# Altium footprint library TerminalBlock_Phoenix.PcbLib: 126 footprints (part 7 of 8)
Each footprint in its own frame and in the unit in brackets; x right, y up, seen from the top. Pads: shape width x height; smd on the part's side, far side on the other; paste and mask are expansions set on the pad; w line width, h text height; cw(c..) or ccw(c..) is an arc to the next point about the centre after c.
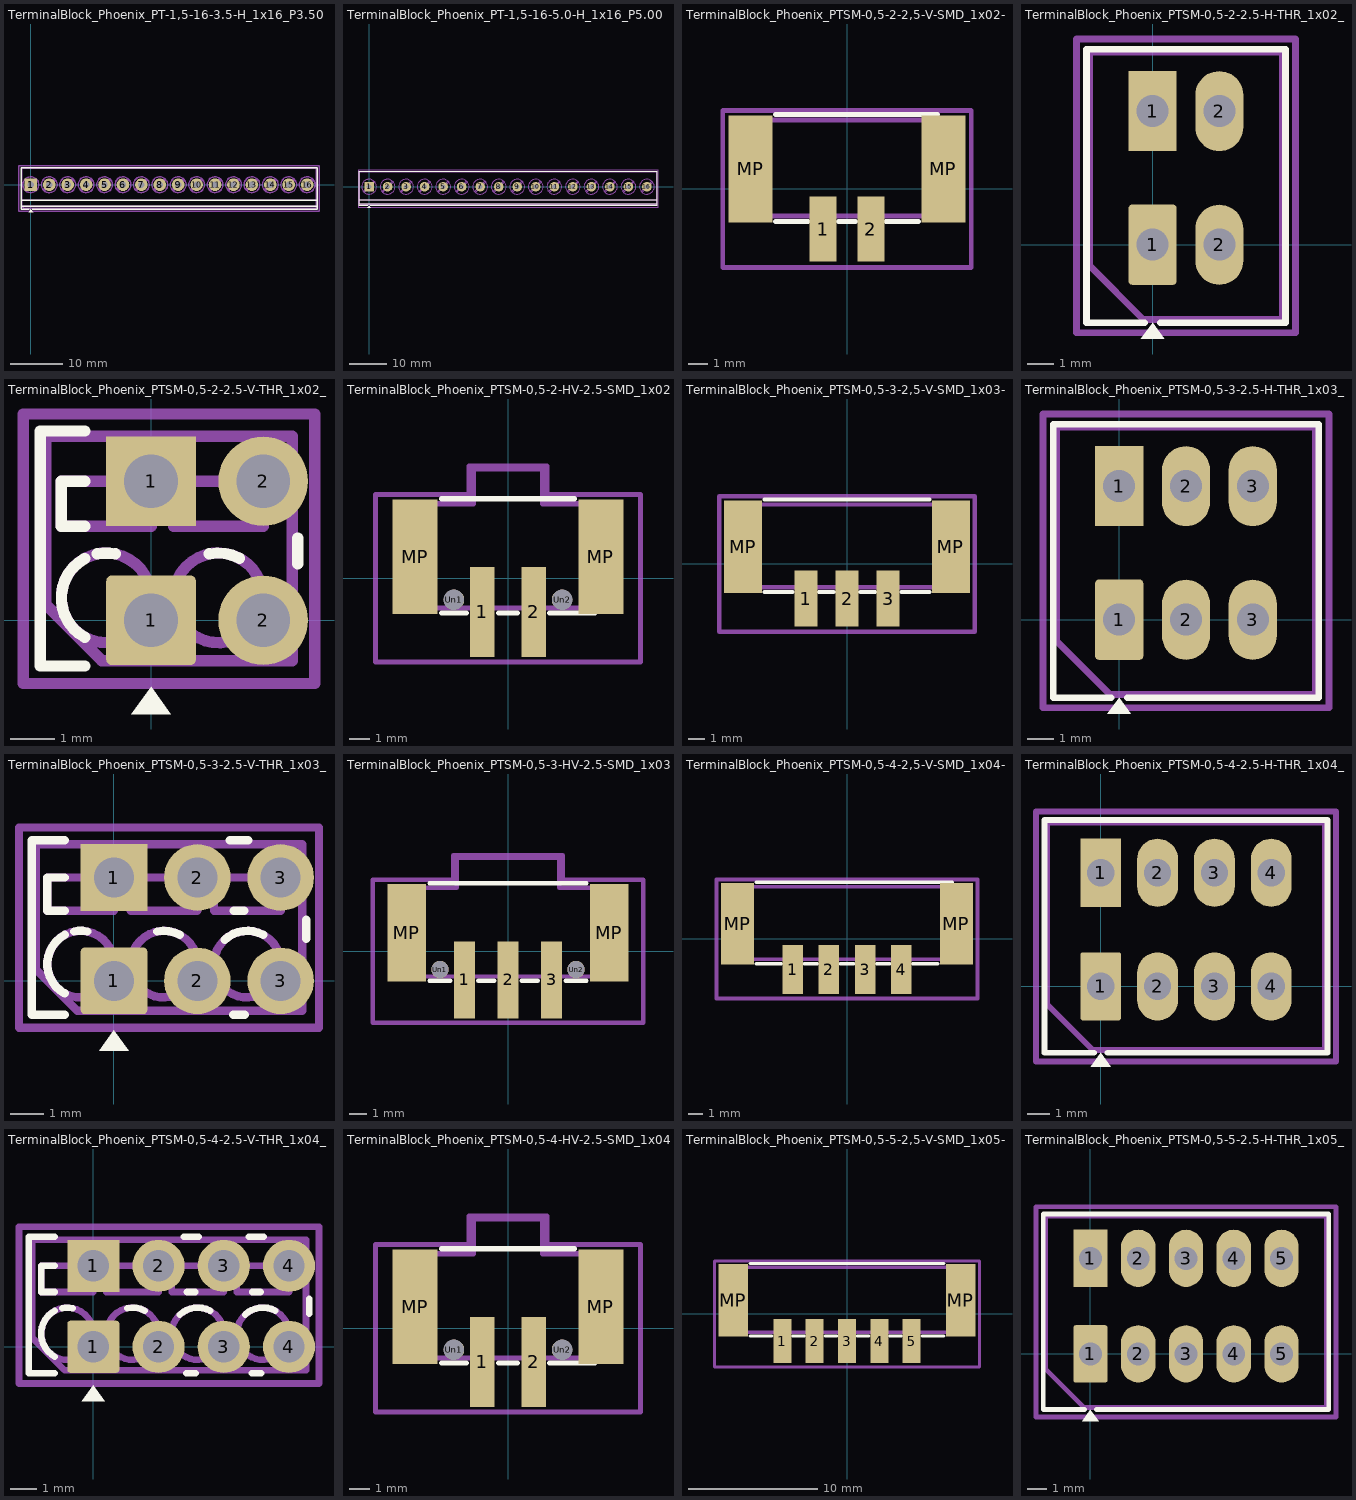
[diagram p6: the footprints below, top view; thin cyan lines are the x and y axes]

## TerminalBlock_Phoenix_PT-1,5-16-3.5-H_1x16_P3.50mm_Horizontal [mm]
pads (16):
  rrect10% 2.4x2.4 hole 1.2: 1(0,0)
  round 2.4 hole 1.2: 2(3.5,0) 3(7,0) 4(10.5,0) 5(14,0) 6(17.5,0) 7(21,0) 8(24.5,0) 9(28,0) 10(31.5,0) 11(35,0) 12(38.5,0) 13(42,0) 14(45.5,0) 15(49,0) 16(52.5,0)
F.SilkS:
  region: 0.44,-5.23 -0.44,-5.23 0,-4.62
  lines w0.254: -1.87,-4.1 54.37,-4.1 ; -1.87,-3 54.37,-3 ; -0.3,-4.62 -1.87,-4.62 -1.87,3.22 54.37,3.22 54.37,-4.62 0.3,-4.62
F.Fab:
  circle w0.254: c0,0 r1.5
  circle w0.254: c3.5,0 r1.5
  circle w0.254: c7,0 r1.5
  circle w0.254: c10.5,0 r1.5
  circle w0.254: c14,0 r1.5
  circle w0.254: c17.5,0 r1.5
  circle w0.254: c21,0 r1.5
  circle w0.254: c24.5,0 r1.5
  circle w0.254: c28,0 r1.5
  circle w0.254: c31.5,0 r1.5
  circle w0.254: c35,0 r1.5
  circle w0.254: c38.5,0 r1.5
  circle w0.254: c42,0 r1.5
  circle w0.254: c45.5,0 r1.5
  circle w0.254: c49,0 r1.5
  circle w0.254: c52.5,0 r1.5
  lines w0.254: -1.75,-3 54.25,-3 ; -1.138,-0.955 0.955,1.138 ; -0.955,-1.138 1.138,0.955 ; 2.362,-0.955 4.455,1.138 ; 2.545,-1.138 4.638,0.955 ; 5.862,-0.955 7.955,1.138 ; 6.045,-1.138 8.138,0.955 ; 9.362,-0.955 11.455,1.138 ; 9.545,-1.138 11.638,0.955 ; 12.862,-0.955 14.955,1.138 ; 13.045,-1.138 15.138,0.955 ; 16.362,-0.955 18.455,1.138 ; 16.545,-1.138 18.638,0.955 ; 19.862,-0.955 21.955,1.138 ; 20.045,-1.138 22.138,0.955 ; 23.362,-0.955 25.455,1.138 ; 23.545,-1.138 25.638,0.955 ; 26.862,-0.955 28.955,1.138 ; 27.045,-1.138 29.138,0.955 ; 30.362,-0.955 32.455,1.138 ; 30.545,-1.138 32.638,0.955 ; 33.862,-0.955 35.955,1.138 ; 34.045,-1.138 36.138,0.955 ; 37.362,-0.955 39.455,1.138 ; 37.545,-1.138 39.638,0.955 ; 40.862,-0.955 42.955,1.138 ; 41.045,-1.138 43.138,0.955 ; 44.362,-0.955 46.455,1.138 ; 44.545,-1.138 46.638,0.955 ; 47.862,-0.955 49.955,1.138 ; 48.045,-1.138 50.138,0.955 ; 51.362,-0.955 53.455,1.138 ; 51.545,-1.138 53.638,0.955 ; 54.25,-4.1 -1.75,-4.1 ; -1.75,-4.1 -1.75,3.1 54.25,3.1 54.25,-4.5 -1.35,-4.5 -1.75,-4.1
  text "'.Designator'" at 22.203,-3.24 h1
F.CrtYd:
  lines w0.254: -2.25,-5 -2.25,3.6 54.75,3.6 54.75,-5 -2.25,-5

## TerminalBlock_Phoenix_PT-1,5-16-5.0-H_1x16_P5.00mm_Horizontal [mm]
pads (16):
  rrect10% 2.6x2.6 hole 1.3: 1(0,0)
  round 2.6 hole 1.3: 2(5,0) 3(10,0) 4(15,0) 5(20,0) 6(25,0) 7(30,0) 8(35,0) 9(40,0) 10(45,0) 11(50,0) 12(55,0) 13(60,0) 14(65,0) 15(70,0) 16(75,0)
F.SilkS:
  region: 0.44,-5.73 -0.44,-5.73 0,-5.12
  lines w0.254: -2.62,-4.6 77.62,-4.6 ; -2.62,-3.5 77.62,-3.5 ; -0.3,-5.12 -2.62,-5.12 -2.62,4.12 77.62,4.12 77.62,-5.12 0.3,-5.12
F.Fab:
  circle w0.254: c0,0 r2
  circle w0.254: c5,0 r2
  circle w0.254: c10,0 r2
  circle w0.254: c15,0 r2
  circle w0.254: c20,0 r2
  circle w0.254: c25,0 r2
  circle w0.254: c30,0 r2
  circle w0.254: c35,0 r2
  circle w0.254: c40,0 r2
  circle w0.254: c45,0 r2
  circle w0.254: c50,0 r2
  circle w0.254: c55,0 r2
  circle w0.254: c60,0 r2
  circle w0.254: c65,0 r2
  circle w0.254: c70,0 r2
  circle w0.254: c75,0 r2
  lines w0.254: -2.5,-3.5 77.5,-3.5 ; -1.517,-1.273 1.273,1.517 ; -1.273,-1.517 1.517,1.273 ; 3.483,-1.273 6.273,1.517 ; 3.727,-1.517 6.517,1.273 ; 8.483,-1.273 11.273,1.517 ; 8.727,-1.517 11.517,1.273 ; 13.483,-1.273 16.273,1.517 ; 13.727,-1.517 16.517,1.273 ; 18.483,-1.273 21.273,1.517 ; 18.727,-1.517 21.517,1.273 ; 23.483,-1.273 26.273,1.517 ; 23.727,-1.517 26.517,1.273 ; 28.483,-1.273 31.273,1.517 ; 28.727,-1.517 31.517,1.273 ; 33.483,-1.273 36.273,1.517 ; 33.727,-1.517 36.517,1.273 ; 38.483,-1.273 41.273,1.517 ; 38.727,-1.517 41.517,1.273 ; 43.483,-1.273 46.273,1.517 ; 43.727,-1.517 46.517,1.273 ; 48.483,-1.273 51.273,1.517 ; 48.727,-1.517 51.517,1.273 ; 53.483,-1.273 56.273,1.517 ; 53.727,-1.517 56.517,1.273 ; 58.483,-1.273 61.273,1.517 ; 58.727,-1.517 61.517,1.273 ; 63.483,-1.273 66.273,1.517 ; 63.727,-1.517 66.517,1.273 ; 68.483,-1.273 71.273,1.517 ; 68.727,-1.517 71.517,1.273 ; 73.483,-1.273 76.273,1.517 ; 73.727,-1.517 76.517,1.273 ; 77.5,-4.6 -2.5,-4.6 ; -2.5,-4.6 -2.5,4 77.5,4 77.5,-5 -2.1,-5 -2.5,-4.6
  text "'.Designator'" at 33.453,-3.74 h1
F.CrtYd:
  lines w0.254: -3,-5.5 -3,4.5 78,4.5 78,-5.5 -3,-5.5

## TerminalBlock_Phoenix_PTSM-0,5-2-2,5-V-SMD_1x02-1MP_P2.50mm_Vertical [mm]
pads (4):
  rect 1.4x3.4 smd: 1(-1.25,-2.13) 2(1.25,-2.13)
  rect 2.3x5.6 smd: MP(-5.05,1.03) MP(5.05,1.03)
F.SilkS:
  lines w0.254: -3.75,-1.73 -2.05,-1.73 ; -3.75,3.88 4.75,3.88 ; -0.45,-1.73 0.45,-1.73 ; 2.05,-1.73 3.75,-1.73
F.Fab:
  lines w0.254: -1.65,-1.43 -1.65,-3.43 -0.85,-3.43 -0.85,-1.43 ; 0.85,-1.43 0.85,-3.43 1.65,-3.43 1.65,-1.43 ; -5.05,-1.43 -5.05,3.58 5.05,3.58 5.05,-1.43 -5.05,-1.43
  text "'.Designator'" at -4.047,-0.765 h1
F.CrtYd:
  lines w0.254: -6.5,-4.13 -6.5,4.08 6.5,4.08 6.5,-4.13 -6.5,-4.13

## TerminalBlock_Phoenix_PTSM-0,5-2-2.5-H-THR_1x02_P2.50mm_Horizontal [mm]
pads (4):
  rrect14% 1.8x3 hole 1.2: 1(0,0)
  rect 1.8x3 hole 1.2: 1(0,5)
  rrect100% 1.8x3 hole 1.2: 2(2.5,0) 2(2.5,5)
F.SilkS:
  region: 0.44,-3.53 -0.44,-3.53 0,-2.92
  lines w0.254: -0.3,-2.92 -2.47,-2.92 -2.47,7.32 4.97,7.32 4.97,-2.92 0.3,-2.92
F.Fab:
  lines w0.254: -2.35,-0.8 -2.35,7.2 4.85,7.2 4.85,-2.8 -0.35,-2.8 -2.35,-0.8
  text "'.Designator'" at -2.797,1.36 h1
F.CrtYd:
  lines w0.254: -2.85,-3.3 -2.85,7.7 5.35,7.7 5.35,-3.3 -2.85,-3.3

## TerminalBlock_Phoenix_PTSM-0,5-2-2.5-V-THR_1x02_P2.50mm_Vertical [mm]
pads (4):
  rrect12% 2x2 hole 1.2: 1(0,0)
  rect 2x2 hole 1.2: 1(0,3.1)
  round 2 hole 1.2: 2(2.5,0) 2(2.5,3.1)
F.SilkS:
  region: 0.44,-2.09 -0.44,-2.09 0,-1.48
  lines w0.254: -1.48,-1.02 -2.47,-1.02 -2.47,4.22 -1.48,4.22 ; -1.48,-0.377 cw(c-1,0.5) -1.48,1.377 ; -1.48,2.1 -2,2.1 -2,3.1 -1.48,3.1 ; -1.199,1.48 cw(c-1,0.5) -0.801,1.48 ; 1.301,1.48 cw(c1.501,0.508) 1.971,1.382 ; 3.27,1.264 3.27,1.836
F.Fab:
  circle w0.254: c-1,0.5 r1
  circle w0.254: c1.5,0.5 r1
  lines w0.254: -2.35,0.35 -2.35,4.1 3.15,4.1 3.15,-0.9 -1.1,-0.9 -2.35,0.35 ; -2,2.1 -2,3.1 0,3.1 0,2.1 -2,2.1 ; 0.5,2.1 0.5,3.1 2.5,3.1 2.5,2.1 0.5,2.1
  text "'.Designator'" at -3.647,4.32 h1
F.CrtYd:
  lines w0.254: -2.85,-1.41 -2.85,4.6 3.65,4.6 3.65,-1.41 -2.85,-1.41

## TerminalBlock_Phoenix_PTSM-0,5-2-HV-2.5-SMD_1x02-1MP_P2.50mm_Vertical [mm]
pads (6):
  rect 1.2x4.4 smd: 1(-1.25,-1.65) 2(1.25,-1.65)
  rect 2.2x5.6 smd: MP(-4.55,1.05) MP(4.55,1.05)
  round 1 hole 1: Un1(-2.65,-1.05) Un2(2.65,-1.05)
F.SilkS:
  lines w0.254: -3.25,-1.7 -2.05,-1.7 ; -3.25,3.9 3.25,3.9 ; -0.45,-1.7 0.45,-1.7 ; 2.05,-1.7 4.25,-1.7
F.Fab:
  lines w0.254: -5.3,3.55 -5.3,-1.45 5.3,-1.45 5.3,3.6 ; -5.3,3.65 -1.7,3.65 -1.7,5.35 1.7,5.35 1.7,3.65 5.3,3.65 ; -1.65,-1.45 -1.65,-3.51 -0.85,-3.51 -0.85,-1.45 ; 0.85,-1.45 0.85,-3.51 1.65,-3.51 1.65,-1.45
  text "'.Designator'" at -4.047,0.08 h1
F.CrtYd:
  lines w0.254: -6.5,-4.1 -6.5,4.1 -1.9,4.1 -1.9,5.5 1.9,5.5 1.9,4.1 6.5,4.1 6.5,-4.1 -6.5,-4.1

## TerminalBlock_Phoenix_PTSM-0,5-3-2,5-V-SMD_1x03-1MP_P2.50mm_Vertical [mm]
pads (5):
  rect 1.4x3.4 smd: 1(-2.5,-2.13) 2(0,-2.13) 3(2.5,-2.13)
  rect 2.3x5.6 smd: MP(-6.3,1.03) MP(6.3,1.03)
F.SilkS:
  lines w0.254: -5,-1.73 -3.3,-1.73 ; -5,3.88 5,3.88 ; -1.7,-1.73 -0.8,-1.73 ; 0.8,-1.73 1.7,-1.73 ; 3.3,-1.73 5,-1.73
F.Fab:
  lines w0.254: -2.9,-1.43 -2.9,-3.43 -2.1,-3.43 -2.1,-1.43 ; -0.4,-1.43 -0.4,-3.43 0.4,-3.43 0.4,-1.43 ; 2.1,-1.43 2.1,-3.43 2.9,-3.43 2.9,-1.43 ; -6.3,-1.43 -6.3,3.58 6.3,3.58 6.3,-1.43 -6.3,-1.43
  text "'.Designator'" at -4.047,-0.765 h1
F.CrtYd:
  lines w0.254: -7.75,-4.13 -7.75,4.08 7.75,4.08 7.75,-4.13 -7.75,-4.13

## TerminalBlock_Phoenix_PTSM-0,5-3-2.5-H-THR_1x03_P2.50mm_Horizontal [mm]
pads (6):
  rrect14% 1.8x3 hole 1.2: 1(0,0)
  rect 1.8x3 hole 1.2: 1(0,5)
  rrect100% 1.8x3 hole 1.2: 2(2.5,0) 2(2.5,5) 3(5,0) 3(5,5)
F.SilkS:
  region: 0.44,-3.53 -0.44,-3.53 0,-2.92
  lines w0.254: -0.3,-2.92 -2.47,-2.92 -2.47,7.32 7.47,7.32 7.47,-2.92 0.3,-2.92
F.Fab:
  lines w0.254: -2.35,-0.8 -2.35,7.2 7.35,7.2 7.35,-2.8 -0.35,-2.8 -2.35,-0.8
  text "'.Designator'" at -1.547,1.36 h1
F.CrtYd:
  lines w0.254: -2.85,-3.3 -2.85,7.7 7.85,7.7 7.85,-3.3 -2.85,-3.3

## TerminalBlock_Phoenix_PTSM-0,5-3-2.5-V-THR_1x03_P2.50mm_Vertical [mm]
pads (6):
  rrect12% 2x2 hole 1.2: 1(0,0)
  rect 2x2 hole 1.2: 1(0,3.1)
  round 2 hole 1.2: 2(2.5,0) 2(2.5,3.1) 3(5,0) 3(5,3.1)
F.SilkS:
  region: 0.44,-2.09 -0.44,-2.09 0,-1.48
  lines w0.254: -1.48,-1.02 -2.47,-1.02 -2.47,4.22 -1.48,4.22 ; -1.48,-0.377 cw(c-1,0.5) -1.48,1.377 ; -1.48,2.1 -2,2.1 -2,3.1 -1.48,3.1 ; -1.199,1.48 cw(c-1,0.5) -0.801,1.48 ; 1.301,1.48 cw(c1.501,0.508) 1.971,1.382 ; 3.319,1.233 cw(c3.999,0.501) 4.471,1.382 ; 3.467,4.22 4.033,4.22 ; 3.572,-1.02 3.928,-1.02 ; 3.591,2.1 3.909,2.1 ; 5.77,1.264 5.77,1.836
F.Fab:
  circle w0.254: c-1,0.5 r1
  circle w0.254: c1.5,0.5 r1
  circle w0.254: c4,0.5 r1
  lines w0.254: -2.35,0.35 -2.35,4.1 5.65,4.1 5.65,-0.9 -1.1,-0.9 -2.35,0.35 ; -2,2.1 -2,3.1 0,3.1 0,2.1 -2,2.1 ; 0.5,2.1 0.5,3.1 2.5,3.1 2.5,2.1 0.5,2.1 ; 3,2.1 3,3.1 5,3.1 5,2.1 3,2.1
  text "'.Designator'" at -2.397,4.32 h1
F.CrtYd:
  lines w0.254: -2.85,-1.41 -2.85,4.6 6.15,4.6 6.15,-1.41 -2.85,-1.41

## TerminalBlock_Phoenix_PTSM-0,5-3-HV-2.5-SMD_1x03-1MP_P2.50mm_Vertical [mm]
pads (7):
  rect 1.2x4.4 smd: 1(-2.5,-1.65) 2(0,-1.65) 3(2.5,-1.65)
  rect 2.2x5.6 smd: MP(-5.8,1.05) MP(5.8,1.05)
  round 1 hole 1: Un1(-3.9,-1.05) Un2(3.9,-1.05)
F.SilkS:
  lines w0.254: -4.5,-1.7 -3.3,-1.7 ; -4.5,3.9 4.5,3.9 ; -1.7,-1.7 -0.8,-1.7 ; 0.8,-1.7 1.7,-1.7 ; 3.3,-1.7 4.5,-1.7
F.Fab:
  lines w0.254: -6.55,3.55 -6.55,-1.45 6.55,-1.45 6.55,3.6 ; -6.55,3.65 -2.95,3.65 -2.95,5.35 2.95,5.35 2.95,3.65 6.55,3.65 ; -2.9,-1.45 -2.9,-3.51 -2.1,-3.51 -2.1,-1.45 ; -0.4,-1.45 -0.4,-3.51 0.4,-3.51 0.4,-1.45 ; 2.1,-1.45 2.1,-3.51 2.9,-3.51 2.9,-1.45
  text "'.Designator'" at -4.047,0.08 h1
F.CrtYd:
  lines w0.254: -7.75,-4.1 -7.75,4.1 -3.15,4.1 -3.15,5.5 3.15,5.5 3.15,4.1 7.75,4.1 7.75,-4.1 -7.75,-4.1

## TerminalBlock_Phoenix_PTSM-0,5-4-2,5-V-SMD_1x04-1MP_P2.50mm_Vertical [mm]
pads (6):
  rect 1.4x3.4 smd: 1(-3.75,-2.13) 2(-1.25,-2.13) 3(1.25,-2.13) 4(3.75,-2.13)
  rect 2.3x5.6 smd: MP(-7.55,1.03) MP(7.55,1.03)
F.SilkS:
  lines w0.254: -6.25,-1.73 -4.55,-1.73 ; -6.25,3.88 7.25,3.88 ; -2.95,-1.73 -2.05,-1.73 ; -0.45,-1.73 0.45,-1.73 ; 2.05,-1.73 2.95,-1.73 ; 4.55,-1.73 6.25,-1.73
F.Fab:
  lines w0.254: -4.15,-1.43 -4.15,-3.43 -3.35,-3.43 -3.35,-1.43 ; -1.65,-1.43 -1.65,-3.43 -0.85,-3.43 -0.85,-1.43 ; 0.85,-1.43 0.85,-3.43 1.65,-3.43 1.65,-1.43 ; 3.35,-1.43 3.35,-3.43 4.15,-3.43 4.15,-1.43 ; -7.55,-1.43 -7.55,3.58 7.55,3.58 7.55,-1.43 -7.55,-1.43
  text "'.Designator'" at -4.047,-0.765 h1
F.CrtYd:
  lines w0.254: -9,-4.13 -9,4.08 9,4.08 9,-4.13 -9,-4.13

## TerminalBlock_Phoenix_PTSM-0,5-4-2.5-H-THR_1x04_P2.50mm_Horizontal [mm]
pads (8):
  rrect14% 1.8x3 hole 1.2: 1(0,0)
  rect 1.8x3 hole 1.2: 1(0,5)
  rrect100% 1.8x3 hole 1.2: 2(2.5,0) 2(2.5,5) 3(5,0) 3(5,5) 4(7.5,0) 4(7.5,5)
F.SilkS:
  region: 0.44,-3.53 -0.44,-3.53 0,-2.92
  lines w0.254: -0.3,-2.92 -2.47,-2.92 -2.47,7.32 9.97,7.32 9.97,-2.92 0.3,-2.92
F.Fab:
  lines w0.254: -2.35,-0.8 -2.35,7.2 9.85,7.2 9.85,-2.8 -0.35,-2.8 -2.35,-0.8
  text "'.Designator'" at -0.297,1.36 h1
F.CrtYd:
  lines w0.254: -2.85,-3.3 -2.85,7.7 10.35,7.7 10.35,-3.3 -2.85,-3.3

## TerminalBlock_Phoenix_PTSM-0,5-4-2.5-V-THR_1x04_P2.50mm_Vertical [mm]
pads (8):
  rrect12% 2x2 hole 1.2: 1(0,0)
  rect 2x2 hole 1.2: 1(0,3.1)
  round 2 hole 1.2: 2(2.5,0) 2(2.5,3.1) 3(5,0) 3(5,3.1) 4(7.5,0) 4(7.5,3.1)
F.SilkS:
  region: 0.44,-2.09 -0.44,-2.09 0,-1.48
  lines w0.254: -1.48,-1.02 -2.47,-1.02 -2.47,4.22 -1.48,4.22 ; -1.48,-0.377 cw(c-1,0.5) -1.48,1.377 ; -1.48,2.1 -2,2.1 -2,3.1 -1.48,3.1 ; -1.199,1.48 cw(c-1,0.5) -0.801,1.48 ; 1.301,1.48 cw(c1.501,0.508) 1.971,1.382 ; 3.319,1.233 cw(c3.999,0.501) 4.471,1.382 ; 3.467,4.22 4.033,4.22 ; 3.572,-1.02 3.928,-1.02 ; 3.591,2.1 3.909,2.1 ; 5.819,1.233 cw(c6.499,0.501) 6.971,1.382 ; 5.967,4.22 6.533,4.22 ; 6.072,-1.02 6.428,-1.02 ; 6.091,2.1 6.409,2.1 ; 8.27,1.264 8.27,1.836
F.Fab:
  circle w0.254: c-1,0.5 r1
  circle w0.254: c1.5,0.5 r1
  circle w0.254: c4,0.5 r1
  circle w0.254: c6.5,0.5 r1
  lines w0.254: -2.35,0.35 -2.35,4.1 8.15,4.1 8.15,-0.9 -1.1,-0.9 -2.35,0.35 ; -2,2.1 -2,3.1 0,3.1 0,2.1 -2,2.1 ; 0.5,2.1 0.5,3.1 2.5,3.1 2.5,2.1 0.5,2.1 ; 3,2.1 3,3.1 5,3.1 5,2.1 3,2.1 ; 5.5,2.1 5.5,3.1 7.5,3.1 7.5,2.1 5.5,2.1
  text "'.Designator'" at -1.147,4.32 h1
F.CrtYd:
  lines w0.254: -2.85,-1.41 -2.85,4.6 8.65,4.6 8.65,-1.41 -2.85,-1.41

## TerminalBlock_Phoenix_PTSM-0,5-4-HV-2.5-SMD_1x04-1MP_P2.50mm_Vertical [mm]
pads (6):
  rect 1.2x4.4 smd: 1(-1.25,-1.65) 2(1.25,-1.65)
  rect 2.2x5.6 smd: MP(-4.55,1.05) MP(4.55,1.05)
  round 1 hole 1: Un1(-2.65,-1.05) Un2(2.65,-1.05)
F.SilkS:
  lines w0.254: -3.25,-1.7 -2.05,-1.7 ; -3.25,3.9 3.25,3.9 ; -0.45,-1.7 0.45,-1.7 ; 2.05,-1.7 4.25,-1.7
F.Fab:
  lines w0.254: -5.3,3.55 -5.3,-1.45 5.3,-1.45 5.3,3.6 ; -5.3,3.65 -1.7,3.65 -1.7,5.35 1.7,5.35 1.7,3.65 5.3,3.65 ; -1.65,-1.45 -1.65,-3.51 -0.85,-3.51 -0.85,-1.45 ; 0.85,-1.45 0.85,-3.51 1.65,-3.51 1.65,-1.45
  text "'.Designator'" at -4.047,0.08 h1
F.CrtYd:
  lines w0.254: -6.5,-4.1 -6.5,4.1 -1.9,4.1 -1.9,5.5 1.9,5.5 1.9,4.1 6.5,4.1 6.5,-4.1 -6.5,-4.1

## TerminalBlock_Phoenix_PTSM-0,5-5-2,5-V-SMD_1x05-1MP_P2.50mm_Vertical [mm]
pads (7):
  rect 1.4x3.4 smd: 1(-5,-2.13) 2(-2.5,-2.13) 3(0,-2.13) 4(2.5,-2.13) 5(5,-2.13)
  rect 2.3x5.6 smd: MP(-8.8,1.03) MP(8.8,1.03)
F.SilkS:
  lines w0.254: -7.5,-1.73 -5.8,-1.73 ; -7.5,3.88 7.5,3.88 ; -4.2,-1.73 -3.3,-1.73 ; -1.7,-1.73 -0.8,-1.73 ; 0.8,-1.73 1.7,-1.73 ; 3.3,-1.73 4.2,-1.73 ; 5.8,-1.73 7.5,-1.73
F.Fab:
  lines w0.254: -5.4,-1.43 -5.4,-3.43 -4.6,-3.43 -4.6,-1.43 ; -2.9,-1.43 -2.9,-3.43 -2.1,-3.43 -2.1,-1.43 ; -0.4,-1.43 -0.4,-3.43 0.4,-3.43 0.4,-1.43 ; 2.1,-1.43 2.1,-3.43 2.9,-3.43 2.9,-1.43 ; 4.6,-1.43 4.6,-3.43 5.4,-3.43 5.4,-1.43 ; -8.8,-1.43 -8.8,3.58 8.8,3.58 8.8,-1.43 -8.8,-1.43
  text "'.Designator'" at -4.047,-0.765 h1
F.CrtYd:
  lines w0.254: -10.25,-4.13 -10.25,4.08 10.25,4.08 10.25,-4.13 -10.25,-4.13

## TerminalBlock_Phoenix_PTSM-0,5-5-2.5-H-THR_1x05_P2.50mm_Horizontal [mm]
pads (10):
  rrect14% 1.8x3 hole 1.2: 1(0,0)
  rect 1.8x3 hole 1.2: 1(0,5)
  rrect100% 1.8x3 hole 1.2: 2(2.5,0) 2(2.5,5) 3(5,0) 3(5,5) 4(7.5,0) 4(7.5,5) 5(10,0) 5(10,5)
F.SilkS:
  region: 0.44,-3.53 -0.44,-3.53 0,-2.92
  lines w0.254: -0.3,-2.92 -2.47,-2.92 -2.47,7.32 12.47,7.32 12.47,-2.92 0.3,-2.92
F.Fab:
  lines w0.254: -2.35,-0.8 -2.35,7.2 12.35,7.2 12.35,-2.8 -0.35,-2.8 -2.35,-0.8
  text "'.Designator'" at 0.953,1.36 h1
F.CrtYd:
  lines w0.254: -2.85,-3.3 -2.85,7.7 12.85,7.7 12.85,-3.3 -2.85,-3.3